# EAGLE library part SIL12EXXX* (library te-fixed-resistors)
General Purpose Resistor Networks - 11 Common Terminal Description Fully automated production techniques, ensure this extensive range offers you consistently high standards of performance and reliability. TE Connectivity (TE) can meet all your demands with its range of 4 to 13 resistor elements in common format and 3 to 7 resistor elements in isolated types. The substrate and lead frame provide exceptional strength and the resistors are protected from humidity and thermal shock by a hardwearing, solvent proof black coating. TE Connectivity (TE) will also manufacture custom design networks for your special requirements. Please contact our Sales Action Desk for details. Key Features 2% & 5% Tolerances Low Price Keeps Production Costs Down Solvent Proof Coating Very Wide Range Low Profile (5.08mm Max.) Very Strong Construction High Insulation Resistance How to order Common Part No. of pins Circuit config Resistance Value Tolerance SIL 12 - 12 Pins E - Common Terminal The first two digits are significant fig- ures of resistance value and the third denotes the number of zeros following. e.g. 220R: 221 4K7: 472 51K: 513 470K: 474 J - 5% G - 2% Ref: Datasheet <http://www.te.com/commerce/DocumentDelivery/DDEController?Action=showdoc&DocId=Data+Sheet%7F1773204%7FH%7Fpdf%7FEnglish%7FENG_DS_1773204_H.pdf%7F1623095-1>
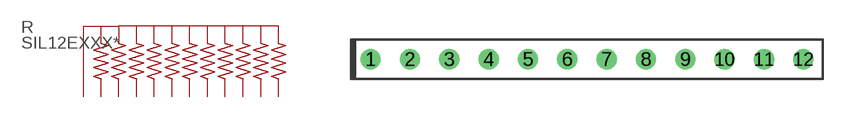
[diagram p11: symbol with the pads of TE_SIP254P3048X250X508-12N; footprint TE_SIP254P3048X250X508-12N]

Designator prefix R

## SIL12EXXXG, SIL12EXXXJ  [TE_SIP254P3048X250X508-12N]
1  C  pas
2  R1  pas
3  R2  pas
4  R3  pas
5  R4  pas
6  R5  pas
7  R6  pas
8  R7  pas
9  R8  pas
10  R9  pas
11  R10  pas
12  R11  pas

## Footprint TE_SIP254P3048X250X508-12N (pad centres in mm)
Single Inline Package (SIP12) 30.48mm L × 2.5mm W x 5.08mm H --------------------------------------------------
drill 0.8: 1 -13.97,0; 2 -11.43,0; 3 -8.89,0; 4 -6.35,0; 5 -3.81,0; 6 -1.27,0; 7 1.27,0; 8 3.81,0; 9 6.35,0; 10 8.89,0; 11 11.43,0; 12 13.97,0